# Altium footprint library DPAK170P1435X465-6N_1.PcbLib: 1 footprints
Each footprint in its own frame and in the unit in brackets; x right, y up, seen from the top. Pads: shape width x height; smd on the part's side, far side on the other; paste and mask are expansions set on the pad; w line width, h text height; cw(c..) or ccw(c..) is an arc to the next point about the centre after c.
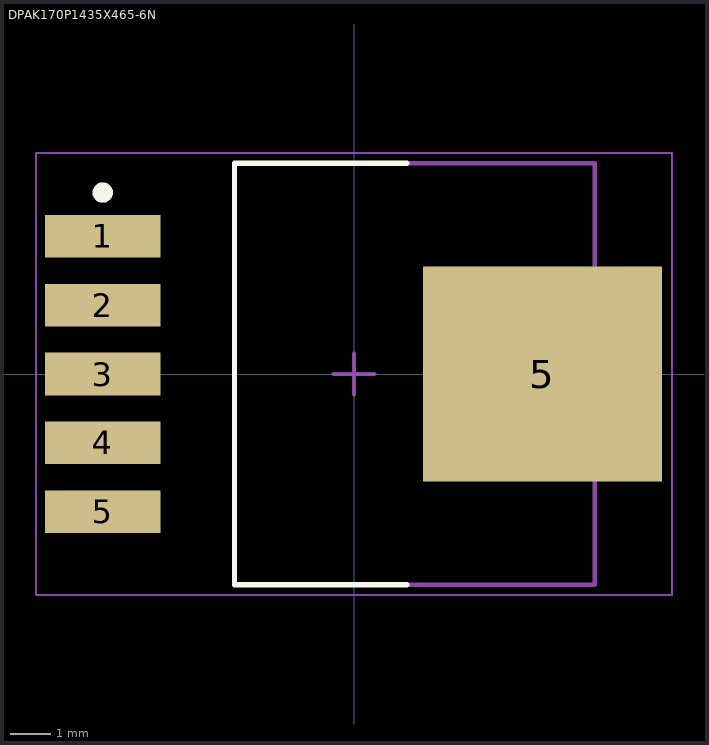
[diagram p0: the footprint, top view; thin cyan lines are the x and y axes]

## DPAK170P1435X465-6N [mm] "D2-PAK, 6-Pads, Body 7.55x8.57mm (max), IPC Medium Density"
height 4.65
pads (6):
  rect 2.85x1.05 smd: 1(-6.2,3.4) 2(-6.2,1.7) 3(-6.2,0) 4(-6.2,-1.7) 5(-6.2,-3.4)
  rect 5.9x5.3 smd: 5(4.65,0)
Top Overlay:
  circle w0.25: c-6.2,4.475 r0.125
  lines w0.127: 1.3,-5.2 -2.95,-5.2 -2.95,5.2 1.3,5.2
Mechanical 13:
  lines w0.1: -2.95,-5.2 -2.95,5.2 5.94,5.2 5.94,-5.2 -2.95,-5.2
Mechanical 15:
  lines w0.05: -7.85,-5.45 -7.85,5.45 7.85,5.45 7.85,-5.45 -7.85,-5.45
  lines w0.1: -0.5,0 0.5,0 ; 0,-0.5 0,0.5
3D body "DPAK170P1435X465-6N.step": height 4.65, standoff 0, extent -6.725,-5.2 7.625,5.2